# Altium footprint library PcbLib1.PcbLib: 3 footprints
Each footprint in its own frame and in the unit in brackets; x right, y up, seen from the top. Pads: shape width x height; smd on the part's side, far side on the other; paste and mask are expansions set on the pad; w line width, h text height; cw(c..) or ccw(c..) is an arc to the next point about the centre after c.
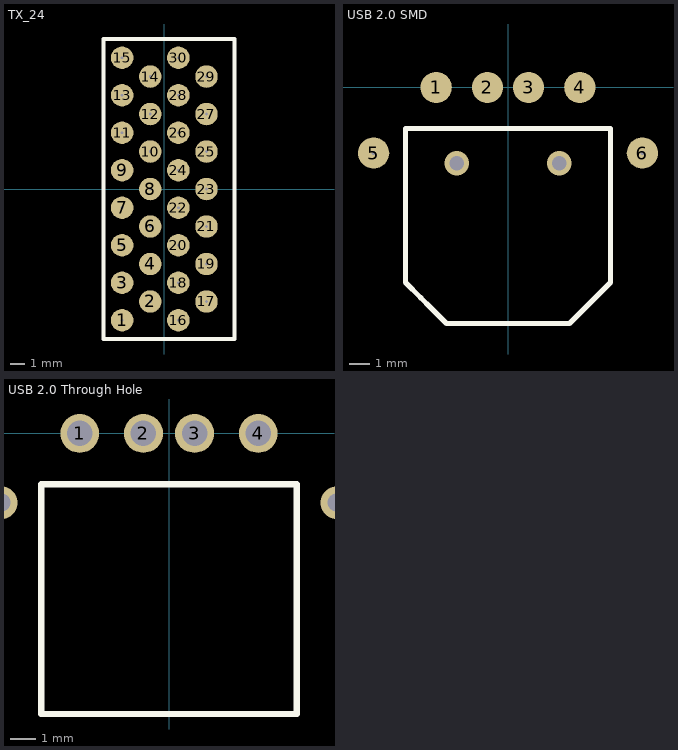
[diagram p0: the footprints below, top view; thin cyan lines are the x and y axes]

## TX_24 [mil]
pads (30):
  round 60 hole 7.87: 1(-112.5,-350) 2(-37.5,-300) 3(-112.5,-250) 4(-37.5,-200) 5(-112.5,-150) 6(-37.5,-100) 7(-112.5,-50) 8(-37.5,0) 9(-112.5,50) 10(-37.5,100) 11(-112.5,150) 12(-37.5,200) 13(-112.5,250) 14(-37.5,300) 15(-112.5,350) 16(37.5,-350) 17(112.5,-300) 18(37.5,-250) 19(112.5,-200) 20(37.5,-150) 21(112.5,-100) 22(37.5,-50) 23(112.5,0) 24(37.5,50) 25(112.5,100) 26(37.5,150) 27(112.5,200) 28(37.5,250) 29(112.5,300) 30(37.5,350)
Top Overlay:
  lines w10: -162.5,-400 -162.5,400 187.5,400 187.5,-400 -162.5,-400

## USB 2.0 SMD [mil] "Type A"
pads (6):
  round 60 all layers, no hole: 1(-137.8,0) 2(-39.37,0) 3(39.37,0) 4(137.8,0)
  round 60 hole 7.87: 5(-257.87,-125.98) 6(257.87,-125.98)
via 98.43,-145.67 diameter 47.24 hole 28
via -98.43,-145.67 diameter 47.24 hole 28
Top Overlay:
  lines w10: -196.85,-374.02 -196.85,-78.74 196.85,-78.74 196.85,-374.02 118.11,-452.76 78.74,-452.76 -118.11,-452.76 -147.64,-423.23 -167.32,-403.54 -196.85,-374.02

## USB 2.0 Through Hole [mil] "Type A"
pads (4):
  round 60 hole 39.37: 1(-137.8,0) 2(-39.37,0) 3(39.37,0) 4(137.8,0)
via 258.66,-106.69 diameter 50 hole 28
via -258.66,-106.69 diameter 50 hole 28
Top Overlay:
  lines w10: -196.85,-433.07 196.85,-433.07 196.85,-78.74 -196.85,-78.74 -196.85,-433.07